# Altium footprint library SRF1280680M.PcbLib: 1 footprints
Each footprint in its own frame and in the unit in brackets; x right, y up, seen from the top. Pads: shape width x height; smd on the part's side, far side on the other; paste and mask are expansions set on the pad; w line width, h text height; cw(c..) or ccw(c..) is an arc to the next point about the centre after c.
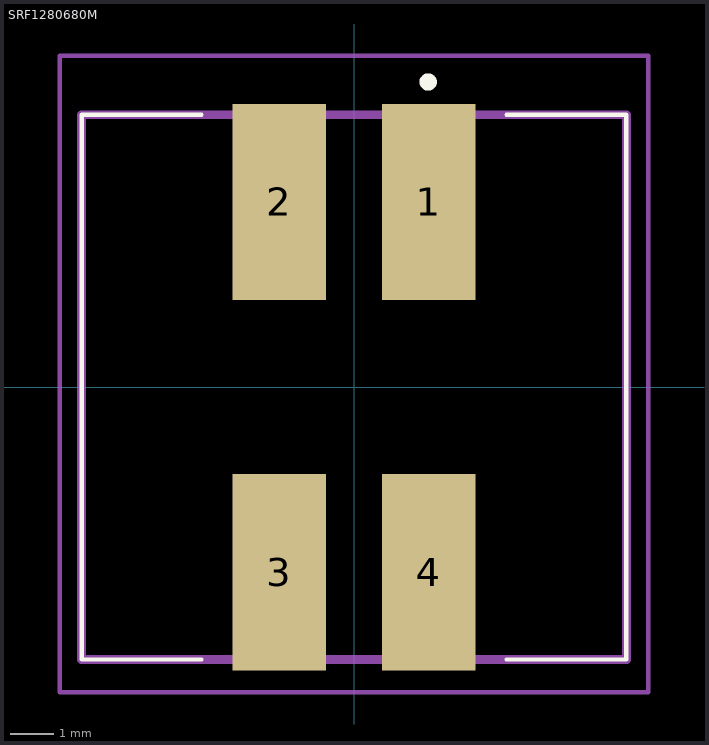
[diagram p0: the footprint, top view; thin cyan lines are the x and y axes]

## SRF1280680M [mm]
pads (4):
  rect 2.15x4.5 smd: 1(1.715,4.25) 2(-1.715,4.25) 3(-1.715,-4.25) 4(1.715,-4.25)
Top Overlay:
  lines w0.1: -3.5,-6.25 -6.25,-6.25 -6.25,6.25 -3.5,6.25 ; 3.5,-6.25 6.25,-6.25 6.25,6.25 3.5,6.25
  lines w0.2: 1.6,7 1.6,7 ; 1.6,7 ccw(c1.7,7) 1.8,7 ; 1.6,7 cw(c1.7,7) 1.8,7 ; 1.8,7 1.8,7
Mechanical 15:
  lines w0.2: -6.25,-6.25 6.25,-6.25 6.25,6.25 -6.25,6.25 -6.25,-6.25
Mechanical 20:
  lines w0.1: -6.75,-7 6.75,-7 6.75,7.6 -6.75,7.6 -6.75,-7